# Altium footprint library Connector_PinHeader_1.27mm.PcbLib: 278 footprints (part 12 of 18)
Each footprint in its own frame and in the unit in brackets; x right, y up, seen from the top. Pads: shape width x height; smd on the part's side, far side on the other; paste and mask are expansions set on the pad; w line width, h text height; cw(c..) or ccw(c..) is an arc to the next point about the centre after c.
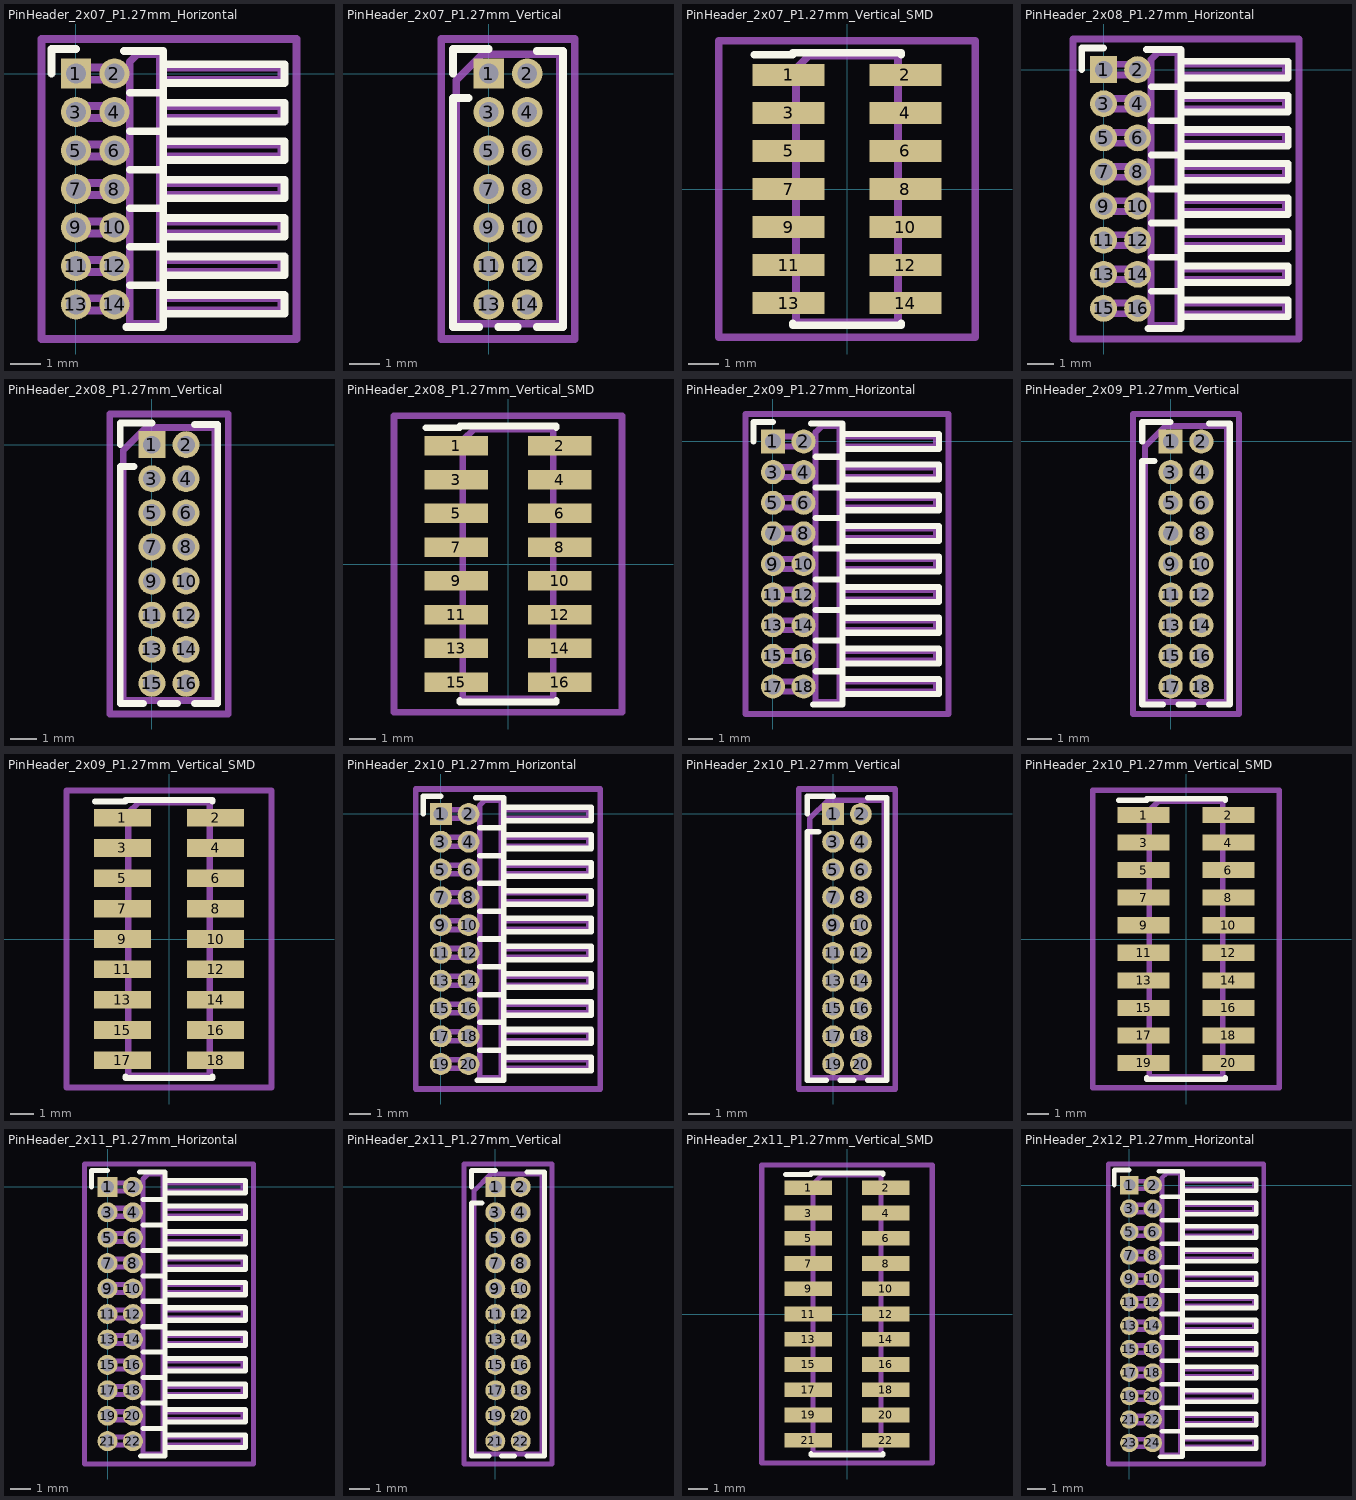
[diagram p11: the footprints below, top view; thin cyan lines are the x and y axes]

## PinHeader_2x07_P1.27mm_Horizontal [mm]
pads (14):
  rect 1x1 hole 0.65: 1(0,0)
  round 1 hole 0.65: 2(1.27,0) 3(0,-1.27) 4(1.27,-1.27) 5(0,-2.54) 6(1.27,-2.54) 7(0,-3.81) 8(1.27,-3.81) 9(0,-5.08) 10(1.27,-5.08) 11(0,-6.35) 12(1.27,-6.35) 13(0,-7.62) 14(1.27,-7.62)
F.SilkS:
  lines w0.254: -0.81,0 -0.81,0.81 0,0.81 ; 1.588,0.745 2.88,0.745 2.88,-8.365 1.66,-8.365 ; 1.773,-6.985 2.88,-6.985 ; 1.773,-5.715 2.88,-5.715 ; 1.773,-4.445 2.88,-4.445 ; 1.773,-3.175 2.88,-3.175 ; 1.773,-1.905 2.88,-1.905 ; 1.773,-0.635 2.88,-0.635 ; 2.88,-7.93 6.88,-7.93 6.88,-7.31 2.88,-7.31 ; 2.88,-6.66 6.88,-6.66 6.88,-6.04 2.88,-6.04 ; 2.88,-5.39 6.88,-5.39 6.88,-4.77 2.88,-4.77 ; 2.88,-4.12 6.88,-4.12 6.88,-3.5 2.88,-3.5 ; 2.88,-2.85 6.88,-2.85 6.88,-2.23 2.88,-2.23 ; 2.88,-1.58 6.88,-1.58 6.88,-0.96 2.88,-0.96 ; 2.88,-0.31 6.88,-0.31 6.88,0.31 2.88,0.31 2.88,-0.31
Top Assembly:
  lines w0.254: 1.77,-7.82 -0.2,-7.82 -0.2,-7.42 1.77,-7.42 ; 1.77,-6.55 -0.2,-6.55 -0.2,-6.15 1.77,-6.15 ; 1.77,-5.28 -0.2,-5.28 -0.2,-4.88 1.77,-4.88 ; 1.77,-4.01 -0.2,-4.01 -0.2,-3.61 1.77,-3.61 ; 1.77,-2.74 -0.2,-2.74 -0.2,-2.34 1.77,-2.34 ; 1.77,-1.47 -0.2,-1.47 -0.2,-1.07 1.77,-1.07 ; 1.77,-0.2 -0.2,-0.2 -0.2,0.2 1.77,0.2 ; 2.77,-7.82 6.77,-7.82 6.77,-7.42 2.77,-7.42 ; 2.77,-6.55 6.77,-6.55 6.77,-6.15 2.77,-6.15 ; 2.77,-5.28 6.77,-5.28 6.77,-4.88 2.77,-4.88 ; 2.77,-4.01 6.77,-4.01 6.77,-3.61 2.77,-3.61 ; 2.77,-2.74 6.77,-2.74 6.77,-2.34 2.77,-2.34 ; 2.77,-1.47 6.77,-1.47 6.77,-1.07 2.77,-1.07 ; 2.77,-0.2 6.77,-0.2 6.77,0.2 2.77,0.2 ; 1.77,-8.255 2.77,-8.255 2.77,0.635 2.02,0.635 1.77,0.385 1.77,-8.255
  text "'.Designator'" at 2.774,-6.238 h0.6
Top Courtyard:
  lines w0.254: -1.14,-8.76 7.28,-8.76 7.28,1.14 -1.14,1.14 -1.14,-8.76
Top Designator:
  text ".Designator" at -4.548,-4.318 h1.52

## PinHeader_2x07_P1.27mm_Vertical [mm]
pads (14):
  rect 1x1 hole 0.65: 1(0,0)
  round 1 hole 0.65: 2(1.27,0) 3(0,-1.27) 4(1.27,-1.27) 5(0,-2.54) 6(1.27,-2.54) 7(0,-3.81) 8(1.27,-3.81) 9(0,-5.08) 10(1.27,-5.08) 11(0,-6.35) 12(1.27,-6.35) 13(0,-7.62) 14(1.27,-7.62)
F.SilkS:
  lines w0.254: -1.18,0 -1.18,0.81 0,0.81 ; -0.667,-0.81 -1.18,-0.81 -1.18,-8.365 -0.318,-8.365 ; 0.318,-8.365 0.952,-8.365 ; 1.588,-8.365 2.45,-8.365 2.45,0.745 1.588,0.745
Top Assembly:
  lines w0.254: -1.07,-8.255 2.34,-8.255 2.34,0.635 -0.218,0.635 -1.07,-0.218 -1.07,-8.255
  text "'.Designator'" at 1.475,-7.857 h1
Top Courtyard:
  lines w0.254: -1.57,-8.76 2.84,-8.76 2.84,1.14 -1.57,1.14 -1.57,-8.76
Top Designator:
  text ".Designator" at -6.983,-4.318 h1.52

## PinHeader_2x07_P1.27mm_Vertical_SMD [mm]
pads (14):
  rect 2.4x0.74 smd: 1(-1.95,3.81) 2(1.95,3.81) 3(-1.95,2.54) 4(1.95,2.54) 5(-1.95,1.27) 6(1.95,1.27) 7(-1.95,0) 8(1.95,0) 9(-1.95,-1.27) 10(1.95,-1.27) 11(-1.95,-2.54) 12(1.95,-2.54) 13(-1.95,-3.81) 14(1.95,-3.81)
F.SilkS:
  lines w0.254: -3.09,4.49 -1.815,4.49 -1.815,4.555 1.815,4.555 1.815,4.49 ; -1.815,-4.49 -1.815,-4.555 1.815,-4.555 1.815,-4.49
Top Assembly:
  lines w0.254: -1.705,-4.01 -2.75,-4.01 -2.75,-3.61 -1.705,-3.61 ; -1.705,-2.74 -2.75,-2.74 -2.75,-2.34 -1.705,-2.34 ; -1.705,-1.47 -2.75,-1.47 -2.75,-1.07 -1.705,-1.07 ; -1.705,-0.2 -2.75,-0.2 -2.75,0.2 -1.705,0.2 ; -1.705,1.07 -2.75,1.07 -2.75,1.47 -1.705,1.47 ; -1.705,2.34 -2.75,2.34 -2.75,2.74 -1.705,2.74 ; -1.705,3.61 -2.75,3.61 -2.75,4.01 -1.705,4.01 ; 1.705,-4.01 2.75,-4.01 2.75,-3.61 1.705,-3.61 ; 1.705,-2.74 2.75,-2.74 2.75,-2.34 1.705,-2.34 ; 1.705,-1.47 2.75,-1.47 2.75,-1.07 1.705,-1.07 ; 1.705,-0.2 2.75,-0.2 2.75,0.2 1.705,0.2 ; 1.705,1.07 2.75,1.07 2.75,1.47 1.705,1.47 ; 1.705,2.34 2.75,2.34 2.75,2.74 1.705,2.74 ; 1.705,3.61 2.75,3.61 2.75,4.01 1.705,4.01 ; -1.705,4.01 -1.705,-4.445 1.705,-4.445 1.705,4.445 -1.27,4.445 -1.705,4.01
  text "'.Designator'" at 0.84,-4.047 h1
Top Courtyard:
  lines w0.254: -4.29,-4.95 4.29,-4.95 4.29,4.95 -4.29,4.95 -4.29,-4.95
Top Designator:
  text ".Designator" at -7.618,-0.508 h1.52

## PinHeader_2x08_P1.27mm_Horizontal [mm]
pads (16):
  rect 1x1 hole 0.65: 1(0,0)
  round 1 hole 0.65: 2(1.27,0) 3(0,-1.27) 4(1.27,-1.27) 5(0,-2.54) 6(1.27,-2.54) 7(0,-3.81) 8(1.27,-3.81) 9(0,-5.08) 10(1.27,-5.08) 11(0,-6.35) 12(1.27,-6.35) 13(0,-7.62) 14(1.27,-7.62) 15(0,-8.89) 16(1.27,-8.89)
F.SilkS:
  lines w0.254: -0.81,0 -0.81,0.81 0,0.81 ; 1.588,0.745 2.88,0.745 2.88,-9.635 1.66,-9.635 ; 1.773,-8.255 2.88,-8.255 ; 1.773,-6.985 2.88,-6.985 ; 1.773,-5.715 2.88,-5.715 ; 1.773,-4.445 2.88,-4.445 ; 1.773,-3.175 2.88,-3.175 ; 1.773,-1.905 2.88,-1.905 ; 1.773,-0.635 2.88,-0.635 ; 2.88,-9.2 6.88,-9.2 6.88,-8.58 2.88,-8.58 ; 2.88,-7.93 6.88,-7.93 6.88,-7.31 2.88,-7.31 ; 2.88,-6.66 6.88,-6.66 6.88,-6.04 2.88,-6.04 ; 2.88,-5.39 6.88,-5.39 6.88,-4.77 2.88,-4.77 ; 2.88,-4.12 6.88,-4.12 6.88,-3.5 2.88,-3.5 ; 2.88,-2.85 6.88,-2.85 6.88,-2.23 2.88,-2.23 ; 2.88,-1.58 6.88,-1.58 6.88,-0.96 2.88,-0.96 ; 2.88,-0.31 6.88,-0.31 6.88,0.31 2.88,0.31 2.88,-0.31
Top Assembly:
  lines w0.254: 1.77,-9.09 -0.2,-9.09 -0.2,-8.69 1.77,-8.69 ; 1.77,-7.82 -0.2,-7.82 -0.2,-7.42 1.77,-7.42 ; 1.77,-6.55 -0.2,-6.55 -0.2,-6.15 1.77,-6.15 ; 1.77,-5.28 -0.2,-5.28 -0.2,-4.88 1.77,-4.88 ; 1.77,-4.01 -0.2,-4.01 -0.2,-3.61 1.77,-3.61 ; 1.77,-2.74 -0.2,-2.74 -0.2,-2.34 1.77,-2.34 ; 1.77,-1.47 -0.2,-1.47 -0.2,-1.07 1.77,-1.07 ; 1.77,-0.2 -0.2,-0.2 -0.2,0.2 1.77,0.2 ; 2.77,-9.09 6.77,-9.09 6.77,-8.69 2.77,-8.69 ; 2.77,-7.82 6.77,-7.82 6.77,-7.42 2.77,-7.42 ; 2.77,-6.55 6.77,-6.55 6.77,-6.15 2.77,-6.15 ; 2.77,-5.28 6.77,-5.28 6.77,-4.88 2.77,-4.88 ; 2.77,-4.01 6.77,-4.01 6.77,-3.61 2.77,-3.61 ; 2.77,-2.74 6.77,-2.74 6.77,-2.34 2.77,-2.34 ; 2.77,-1.47 6.77,-1.47 6.77,-1.07 2.77,-1.07 ; 2.77,-0.2 6.77,-0.2 6.77,0.2 2.77,0.2 ; 1.77,-9.525 2.77,-9.525 2.77,0.635 2.02,0.635 1.77,0.385 1.77,-9.525
  text "'.Designator'" at 2.774,-6.873 h0.6
Top Courtyard:
  lines w0.254: -1.14,-10.03 7.28,-10.03 7.28,1.14 -1.14,1.14 -1.14,-10.03
Top Designator:
  text ".Designator" at -4.548,-4.953 h1.52

## PinHeader_2x08_P1.27mm_Vertical [mm]
pads (16):
  rect 1x1 hole 0.65: 1(0,0)
  round 1 hole 0.65: 2(1.27,0) 3(0,-1.27) 4(1.27,-1.27) 5(0,-2.54) 6(1.27,-2.54) 7(0,-3.81) 8(1.27,-3.81) 9(0,-5.08) 10(1.27,-5.08) 11(0,-6.35) 12(1.27,-6.35) 13(0,-7.62) 14(1.27,-7.62) 15(0,-8.89) 16(1.27,-8.89)
F.SilkS:
  lines w0.254: -1.18,0 -1.18,0.81 0,0.81 ; -0.667,-0.81 -1.18,-0.81 -1.18,-9.635 -0.318,-9.635 ; 0.318,-9.635 0.952,-9.635 ; 1.588,-9.635 2.45,-9.635 2.45,0.745 1.588,0.745
Top Assembly:
  lines w0.254: -1.07,-9.525 2.34,-9.525 2.34,0.635 -0.218,0.635 -1.07,-0.218 -1.07,-9.525
  text "'.Designator'" at 1.475,-8.492 h1
Top Courtyard:
  lines w0.254: -1.57,-10.03 2.84,-10.03 2.84,1.14 -1.57,1.14 -1.57,-10.03
Top Designator:
  text ".Designator" at -6.983,-4.953 h1.52

## PinHeader_2x08_P1.27mm_Vertical_SMD [mm]
pads (16):
  rect 2.4x0.74 smd: 1(-1.95,4.445) 2(1.95,4.445) 3(-1.95,3.175) 4(1.95,3.175) 5(-1.95,1.905) 6(1.95,1.905) 7(-1.95,0.635) 8(1.95,0.635) 9(-1.95,-0.635) 10(1.95,-0.635) 11(-1.95,-1.905) 12(1.95,-1.905) 13(-1.95,-3.175) 14(1.95,-3.175) 15(-1.95,-4.445) 16(1.95,-4.445)
F.SilkS:
  lines w0.254: -3.09,5.125 -1.815,5.125 -1.815,5.19 1.815,5.19 1.815,5.125 ; -1.815,-5.125 -1.815,-5.19 1.815,-5.19 1.815,-5.125
Top Assembly:
  lines w0.254: -1.705,-4.645 -2.75,-4.645 -2.75,-4.245 -1.705,-4.245 ; -1.705,-3.375 -2.75,-3.375 -2.75,-2.975 -1.705,-2.975 ; -1.705,-2.105 -2.75,-2.105 -2.75,-1.705 -1.705,-1.705 ; -1.705,-0.835 -2.75,-0.835 -2.75,-0.435 -1.705,-0.435 ; -1.705,0.435 -2.75,0.435 -2.75,0.835 -1.705,0.835 ; -1.705,1.705 -2.75,1.705 -2.75,2.105 -1.705,2.105 ; -1.705,2.975 -2.75,2.975 -2.75,3.375 -1.705,3.375 ; -1.705,4.245 -2.75,4.245 -2.75,4.645 -1.705,4.645 ; 1.705,-4.645 2.75,-4.645 2.75,-4.245 1.705,-4.245 ; 1.705,-3.375 2.75,-3.375 2.75,-2.975 1.705,-2.975 ; 1.705,-2.105 2.75,-2.105 2.75,-1.705 1.705,-1.705 ; 1.705,-0.835 2.75,-0.835 2.75,-0.435 1.705,-0.435 ; 1.705,0.435 2.75,0.435 2.75,0.835 1.705,0.835 ; 1.705,1.705 2.75,1.705 2.75,2.105 1.705,2.105 ; 1.705,2.975 2.75,2.975 2.75,3.375 1.705,3.375 ; 1.705,4.245 2.75,4.245 2.75,4.645 1.705,4.645 ; -1.705,4.645 -1.705,-5.08 1.705,-5.08 1.705,5.08 -1.27,5.08 -1.705,4.645
  text "'.Designator'" at 0.84,-4.047 h1
Top Courtyard:
  lines w0.254: -4.29,-5.58 4.29,-5.58 4.29,5.58 -4.29,5.58 -4.29,-5.58
Top Designator:
  text ".Designator" at -7.618,-0.508 h1.52

## PinHeader_2x09_P1.27mm_Horizontal [mm]
pads (18):
  rect 1x1 hole 0.65: 1(0,0)
  round 1 hole 0.65: 2(1.27,0) 3(0,-1.27) 4(1.27,-1.27) 5(0,-2.54) 6(1.27,-2.54) 7(0,-3.81) 8(1.27,-3.81) 9(0,-5.08) 10(1.27,-5.08) 11(0,-6.35) 12(1.27,-6.35) 13(0,-7.62) 14(1.27,-7.62) 15(0,-8.89) 16(1.27,-8.89) 17(0,-10.16) 18(1.27,-10.16)
F.SilkS:
  lines w0.254: -0.81,0 -0.81,0.81 0,0.81 ; 1.588,0.745 2.88,0.745 2.88,-10.905 1.66,-10.905 ; 1.773,-9.525 2.88,-9.525 ; 1.773,-8.255 2.88,-8.255 ; 1.773,-6.985 2.88,-6.985 ; 1.773,-5.715 2.88,-5.715 ; 1.773,-4.445 2.88,-4.445 ; 1.773,-3.175 2.88,-3.175 ; 1.773,-1.905 2.88,-1.905 ; 1.773,-0.635 2.88,-0.635 ; 2.88,-10.47 6.88,-10.47 6.88,-9.85 2.88,-9.85 ; 2.88,-9.2 6.88,-9.2 6.88,-8.58 2.88,-8.58 ; 2.88,-7.93 6.88,-7.93 6.88,-7.31 2.88,-7.31 ; 2.88,-6.66 6.88,-6.66 6.88,-6.04 2.88,-6.04 ; 2.88,-5.39 6.88,-5.39 6.88,-4.77 2.88,-4.77 ; 2.88,-4.12 6.88,-4.12 6.88,-3.5 2.88,-3.5 ; 2.88,-2.85 6.88,-2.85 6.88,-2.23 2.88,-2.23 ; 2.88,-1.58 6.88,-1.58 6.88,-0.96 2.88,-0.96 ; 2.88,-0.31 6.88,-0.31 6.88,0.31 2.88,0.31 2.88,-0.31
Top Assembly:
  lines w0.254: 1.77,-10.36 -0.2,-10.36 -0.2,-9.96 1.77,-9.96 ; 1.77,-9.09 -0.2,-9.09 -0.2,-8.69 1.77,-8.69 ; 1.77,-7.82 -0.2,-7.82 -0.2,-7.42 1.77,-7.42 ; 1.77,-6.55 -0.2,-6.55 -0.2,-6.15 1.77,-6.15 ; 1.77,-5.28 -0.2,-5.28 -0.2,-4.88 1.77,-4.88 ; 1.77,-4.01 -0.2,-4.01 -0.2,-3.61 1.77,-3.61 ; 1.77,-2.74 -0.2,-2.74 -0.2,-2.34 1.77,-2.34 ; 1.77,-1.47 -0.2,-1.47 -0.2,-1.07 1.77,-1.07 ; 1.77,-0.2 -0.2,-0.2 -0.2,0.2 1.77,0.2 ; 2.77,-10.36 6.77,-10.36 6.77,-9.96 2.77,-9.96 ; 2.77,-9.09 6.77,-9.09 6.77,-8.69 2.77,-8.69 ; 2.77,-7.82 6.77,-7.82 6.77,-7.42 2.77,-7.42 ; 2.77,-6.55 6.77,-6.55 6.77,-6.15 2.77,-6.15 ; 2.77,-5.28 6.77,-5.28 6.77,-4.88 2.77,-4.88 ; 2.77,-4.01 6.77,-4.01 6.77,-3.61 2.77,-3.61 ; 2.77,-2.74 6.77,-2.74 6.77,-2.34 2.77,-2.34 ; 2.77,-1.47 6.77,-1.47 6.77,-1.07 2.77,-1.07 ; 2.77,-0.2 6.77,-0.2 6.77,0.2 2.77,0.2 ; 1.77,-10.795 2.77,-10.795 2.77,0.635 2.02,0.635 1.77,0.385 1.77,-10.795
  text "'.Designator'" at 2.774,-7.508 h0.6
Top Courtyard:
  lines w0.254: -1.14,-11.3 7.28,-11.3 7.28,1.14 -1.14,1.14 -1.14,-11.3
Top Designator:
  text ".Designator" at -4.548,-5.588 h1.52

## PinHeader_2x09_P1.27mm_Vertical [mm]
pads (18):
  rect 1x1 hole 0.65: 1(0,0)
  round 1 hole 0.65: 2(1.27,0) 3(0,-1.27) 4(1.27,-1.27) 5(0,-2.54) 6(1.27,-2.54) 7(0,-3.81) 8(1.27,-3.81) 9(0,-5.08) 10(1.27,-5.08) 11(0,-6.35) 12(1.27,-6.35) 13(0,-7.62) 14(1.27,-7.62) 15(0,-8.89) 16(1.27,-8.89) 17(0,-10.16) 18(1.27,-10.16)
F.SilkS:
  lines w0.254: -1.18,0 -1.18,0.81 0,0.81 ; -0.667,-0.81 -1.18,-0.81 -1.18,-10.905 -0.318,-10.905 ; 0.318,-10.905 0.952,-10.905 ; 1.588,-10.905 2.45,-10.905 2.45,0.745 1.588,0.745
Top Assembly:
  lines w0.254: -1.07,-10.795 2.34,-10.795 2.34,0.635 -0.218,0.635 -1.07,-0.218 -1.07,-10.795
  text "'.Designator'" at 1.475,-9.127 h1
Top Courtyard:
  lines w0.254: -1.57,-11.3 2.84,-11.3 2.84,1.14 -1.57,1.14 -1.57,-11.3
Top Designator:
  text ".Designator" at -6.983,-5.588 h1.52

## PinHeader_2x09_P1.27mm_Vertical_SMD [mm]
pads (18):
  rect 2.4x0.74 smd: 1(-1.95,5.08) 2(1.95,5.08) 3(-1.95,3.81) 4(1.95,3.81) 5(-1.95,2.54) 6(1.95,2.54) 7(-1.95,1.27) 8(1.95,1.27) 9(-1.95,0) 10(1.95,0) 11(-1.95,-1.27) 12(1.95,-1.27) 13(-1.95,-2.54) 14(1.95,-2.54) 15(-1.95,-3.81) 16(1.95,-3.81) 17(-1.95,-5.08) 18(1.95,-5.08)
F.SilkS:
  lines w0.254: -3.09,5.76 -1.815,5.76 -1.815,5.825 1.815,5.825 1.815,5.76 ; -1.815,-5.76 -1.815,-5.825 1.815,-5.825 1.815,-5.76
Top Assembly:
  lines w0.254: -1.705,-5.28 -2.75,-5.28 -2.75,-4.88 -1.705,-4.88 ; -1.705,-4.01 -2.75,-4.01 -2.75,-3.61 -1.705,-3.61 ; -1.705,-2.74 -2.75,-2.74 -2.75,-2.34 -1.705,-2.34 ; -1.705,-1.47 -2.75,-1.47 -2.75,-1.07 -1.705,-1.07 ; -1.705,-0.2 -2.75,-0.2 -2.75,0.2 -1.705,0.2 ; -1.705,1.07 -2.75,1.07 -2.75,1.47 -1.705,1.47 ; -1.705,2.34 -2.75,2.34 -2.75,2.74 -1.705,2.74 ; -1.705,3.61 -2.75,3.61 -2.75,4.01 -1.705,4.01 ; -1.705,4.88 -2.75,4.88 -2.75,5.28 -1.705,5.28 ; 1.705,-5.28 2.75,-5.28 2.75,-4.88 1.705,-4.88 ; 1.705,-4.01 2.75,-4.01 2.75,-3.61 1.705,-3.61 ; 1.705,-2.74 2.75,-2.74 2.75,-2.34 1.705,-2.34 ; 1.705,-1.47 2.75,-1.47 2.75,-1.07 1.705,-1.07 ; 1.705,-0.2 2.75,-0.2 2.75,0.2 1.705,0.2 ; 1.705,1.07 2.75,1.07 2.75,1.47 1.705,1.47 ; 1.705,2.34 2.75,2.34 2.75,2.74 1.705,2.74 ; 1.705,3.61 2.75,3.61 2.75,4.01 1.705,4.01 ; 1.705,4.88 2.75,4.88 2.75,5.28 1.705,5.28 ; -1.705,5.28 -1.705,-5.715 1.705,-5.715 1.705,5.715 -1.27,5.715 -1.705,5.28
  text "'.Designator'" at 0.84,-4.047 h1
Top Courtyard:
  lines w0.254: -4.29,-6.22 4.29,-6.22 4.29,6.22 -4.29,6.22 -4.29,-6.22
Top Designator:
  text ".Designator" at -7.618,-0.508 h1.52

## PinHeader_2x10_P1.27mm_Horizontal [mm]
pads (20):
  rect 1x1 hole 0.65: 1(0,0)
  round 1 hole 0.65: 2(1.27,0) 3(0,-1.27) 4(1.27,-1.27) 5(0,-2.54) 6(1.27,-2.54) 7(0,-3.81) 8(1.27,-3.81) 9(0,-5.08) 10(1.27,-5.08) 11(0,-6.35) 12(1.27,-6.35) 13(0,-7.62) 14(1.27,-7.62) 15(0,-8.89) 16(1.27,-8.89) 17(0,-10.16) 18(1.27,-10.16) 19(0,-11.43) 20(1.27,-11.43)
F.SilkS:
  lines w0.254: -0.81,0 -0.81,0.81 0,0.81 ; 1.588,0.745 2.88,0.745 2.88,-12.175 1.66,-12.175 ; 1.773,-10.795 2.88,-10.795 ; 1.773,-9.525 2.88,-9.525 ; 1.773,-8.255 2.88,-8.255 ; 1.773,-6.985 2.88,-6.985 ; 1.773,-5.715 2.88,-5.715 ; 1.773,-4.445 2.88,-4.445 ; 1.773,-3.175 2.88,-3.175 ; 1.773,-1.905 2.88,-1.905 ; 1.773,-0.635 2.88,-0.635 ; 2.88,-11.74 6.88,-11.74 6.88,-11.12 2.88,-11.12 ; 2.88,-10.47 6.88,-10.47 6.88,-9.85 2.88,-9.85 ; 2.88,-9.2 6.88,-9.2 6.88,-8.58 2.88,-8.58 ; 2.88,-7.93 6.88,-7.93 6.88,-7.31 2.88,-7.31 ; 2.88,-6.66 6.88,-6.66 6.88,-6.04 2.88,-6.04 ; 2.88,-5.39 6.88,-5.39 6.88,-4.77 2.88,-4.77 ; 2.88,-4.12 6.88,-4.12 6.88,-3.5 2.88,-3.5 ; 2.88,-2.85 6.88,-2.85 6.88,-2.23 2.88,-2.23 ; 2.88,-1.58 6.88,-1.58 6.88,-0.96 2.88,-0.96 ; 2.88,-0.31 6.88,-0.31 6.88,0.31 2.88,0.31 2.88,-0.31
Top Assembly:
  lines w0.254: 1.77,-11.63 -0.2,-11.63 -0.2,-11.23 1.77,-11.23 ; 1.77,-10.36 -0.2,-10.36 -0.2,-9.96 1.77,-9.96 ; 1.77,-9.09 -0.2,-9.09 -0.2,-8.69 1.77,-8.69 ; 1.77,-7.82 -0.2,-7.82 -0.2,-7.42 1.77,-7.42 ; 1.77,-6.55 -0.2,-6.55 -0.2,-6.15 1.77,-6.15 ; 1.77,-5.28 -0.2,-5.28 -0.2,-4.88 1.77,-4.88 ; 1.77,-4.01 -0.2,-4.01 -0.2,-3.61 1.77,-3.61 ; 1.77,-2.74 -0.2,-2.74 -0.2,-2.34 1.77,-2.34 ; 1.77,-1.47 -0.2,-1.47 -0.2,-1.07 1.77,-1.07 ; 1.77,-0.2 -0.2,-0.2 -0.2,0.2 1.77,0.2 ; 2.77,-11.63 6.77,-11.63 6.77,-11.23 2.77,-11.23 ; 2.77,-10.36 6.77,-10.36 6.77,-9.96 2.77,-9.96 ; 2.77,-9.09 6.77,-9.09 6.77,-8.69 2.77,-8.69 ; 2.77,-7.82 6.77,-7.82 6.77,-7.42 2.77,-7.42 ; 2.77,-6.55 6.77,-6.55 6.77,-6.15 2.77,-6.15 ; 2.77,-5.28 6.77,-5.28 6.77,-4.88 2.77,-4.88 ; 2.77,-4.01 6.77,-4.01 6.77,-3.61 2.77,-3.61 ; 2.77,-2.74 6.77,-2.74 6.77,-2.34 2.77,-2.34 ; 2.77,-1.47 6.77,-1.47 6.77,-1.07 2.77,-1.07 ; 2.77,-0.2 6.77,-0.2 6.77,0.2 2.77,0.2 ; 1.77,-12.065 2.77,-12.065 2.77,0.635 2.02,0.635 1.77,0.385 1.77,-12.065
  text "'.Designator'" at 2.774,-8.143 h0.6
Top Courtyard:
  lines w0.254: -1.14,-12.57 7.28,-12.57 7.28,1.14 -1.14,1.14 -1.14,-12.57
Top Designator:
  text ".Designator" at -4.548,-6.223 h1.52

## PinHeader_2x10_P1.27mm_Vertical [mm]
pads (20):
  rect 1x1 hole 0.65: 1(0,0)
  round 1 hole 0.65: 2(1.27,0) 3(0,-1.27) 4(1.27,-1.27) 5(0,-2.54) 6(1.27,-2.54) 7(0,-3.81) 8(1.27,-3.81) 9(0,-5.08) 10(1.27,-5.08) 11(0,-6.35) 12(1.27,-6.35) 13(0,-7.62) 14(1.27,-7.62) 15(0,-8.89) 16(1.27,-8.89) 17(0,-10.16) 18(1.27,-10.16) 19(0,-11.43) 20(1.27,-11.43)
F.SilkS:
  lines w0.254: -1.18,0 -1.18,0.81 0,0.81 ; -0.667,-0.81 -1.18,-0.81 -1.18,-12.175 -0.318,-12.175 ; 0.318,-12.175 0.952,-12.175 ; 1.588,-12.175 2.45,-12.175 2.45,0.745 1.588,0.745
Top Assembly:
  lines w0.254: -1.07,-12.065 2.34,-12.065 2.34,0.635 -0.218,0.635 -1.07,-0.218 -1.07,-12.065
  text "'.Designator'" at 1.475,-9.762 h1
Top Courtyard:
  lines w0.254: -1.57,-12.57 2.84,-12.57 2.84,1.14 -1.57,1.14 -1.57,-12.57
Top Designator:
  text ".Designator" at -6.983,-6.223 h1.52

## PinHeader_2x10_P1.27mm_Vertical_SMD [mm]
pads (20):
  rect 2.4x0.74 smd: 1(-1.95,5.715) 2(1.95,5.715) 3(-1.95,4.445) 4(1.95,4.445) 5(-1.95,3.175) 6(1.95,3.175) 7(-1.95,1.905) 8(1.95,1.905) 9(-1.95,0.635) 10(1.95,0.635) 11(-1.95,-0.635) 12(1.95,-0.635) 13(-1.95,-1.905) 14(1.95,-1.905) 15(-1.95,-3.175) 16(1.95,-3.175) 17(-1.95,-4.445) 18(1.95,-4.445) 19(-1.95,-5.715) 20(1.95,-5.715)
F.SilkS:
  lines w0.254: -3.09,6.395 -1.815,6.395 -1.815,6.46 1.815,6.46 1.815,6.395 ; -1.815,-6.395 -1.815,-6.46 1.815,-6.46 1.815,-6.395
Top Assembly:
  lines w0.254: -1.705,-5.915 -2.75,-5.915 -2.75,-5.515 -1.705,-5.515 ; -1.705,-4.645 -2.75,-4.645 -2.75,-4.245 -1.705,-4.245 ; -1.705,-3.375 -2.75,-3.375 -2.75,-2.975 -1.705,-2.975 ; -1.705,-2.105 -2.75,-2.105 -2.75,-1.705 -1.705,-1.705 ; -1.705,-0.835 -2.75,-0.835 -2.75,-0.435 -1.705,-0.435 ; -1.705,0.435 -2.75,0.435 -2.75,0.835 -1.705,0.835 ; -1.705,1.705 -2.75,1.705 -2.75,2.105 -1.705,2.105 ; -1.705,2.975 -2.75,2.975 -2.75,3.375 -1.705,3.375 ; -1.705,4.245 -2.75,4.245 -2.75,4.645 -1.705,4.645 ; -1.705,5.515 -2.75,5.515 -2.75,5.915 -1.705,5.915 ; 1.705,-5.915 2.75,-5.915 2.75,-5.515 1.705,-5.515 ; 1.705,-4.645 2.75,-4.645 2.75,-4.245 1.705,-4.245 ; 1.705,-3.375 2.75,-3.375 2.75,-2.975 1.705,-2.975 ; 1.705,-2.105 2.75,-2.105 2.75,-1.705 1.705,-1.705 ; 1.705,-0.835 2.75,-0.835 2.75,-0.435 1.705,-0.435 ; 1.705,0.435 2.75,0.435 2.75,0.835 1.705,0.835 ; 1.705,1.705 2.75,1.705 2.75,2.105 1.705,2.105 ; 1.705,2.975 2.75,2.975 2.75,3.375 1.705,3.375 ; 1.705,4.245 2.75,4.245 2.75,4.645 1.705,4.645 ; 1.705,5.515 2.75,5.515 2.75,5.915 1.705,5.915 ; -1.705,5.915 -1.705,-6.35 1.705,-6.35 1.705,6.35 -1.27,6.35 -1.705,5.915
  text "'.Designator'" at 0.84,-4.047 h1
Top Courtyard:
  lines w0.254: -4.29,-6.85 4.29,-6.85 4.29,6.85 -4.29,6.85 -4.29,-6.85
Top Designator:
  text ".Designator" at -7.618,-0.508 h1.52

## PinHeader_2x11_P1.27mm_Horizontal [mm]
pads (22):
  rect 1x1 hole 0.65: 1(0,0)
  round 1 hole 0.65: 2(1.27,0) 3(0,-1.27) 4(1.27,-1.27) 5(0,-2.54) 6(1.27,-2.54) 7(0,-3.81) 8(1.27,-3.81) 9(0,-5.08) 10(1.27,-5.08) 11(0,-6.35) 12(1.27,-6.35) 13(0,-7.62) 14(1.27,-7.62) 15(0,-8.89) 16(1.27,-8.89) 17(0,-10.16) 18(1.27,-10.16) 19(0,-11.43) 20(1.27,-11.43) 21(0,-12.7) 22(1.27,-12.7)
F.SilkS:
  lines w0.254: -0.81,0 -0.81,0.81 0,0.81 ; 1.588,0.745 2.88,0.745 2.88,-13.445 1.66,-13.445 ; 1.773,-12.065 2.88,-12.065 ; 1.773,-10.795 2.88,-10.795 ; 1.773,-9.525 2.88,-9.525 ; 1.773,-8.255 2.88,-8.255 ; 1.773,-6.985 2.88,-6.985 ; 1.773,-5.715 2.88,-5.715 ; 1.773,-4.445 2.88,-4.445 ; 1.773,-3.175 2.88,-3.175 ; 1.773,-1.905 2.88,-1.905 ; 1.773,-0.635 2.88,-0.635 ; 2.88,-13.01 6.88,-13.01 6.88,-12.39 2.88,-12.39 ; 2.88,-11.74 6.88,-11.74 6.88,-11.12 2.88,-11.12 ; 2.88,-10.47 6.88,-10.47 6.88,-9.85 2.88,-9.85 ; 2.88,-9.2 6.88,-9.2 6.88,-8.58 2.88,-8.58 ; 2.88,-7.93 6.88,-7.93 6.88,-7.31 2.88,-7.31 ; 2.88,-6.66 6.88,-6.66 6.88,-6.04 2.88,-6.04 ; 2.88,-5.39 6.88,-5.39 6.88,-4.77 2.88,-4.77 ; 2.88,-4.12 6.88,-4.12 6.88,-3.5 2.88,-3.5 ; 2.88,-2.85 6.88,-2.85 6.88,-2.23 2.88,-2.23 ; 2.88,-1.58 6.88,-1.58 6.88,-0.96 2.88,-0.96 ; 2.88,-0.31 6.88,-0.31 6.88,0.31 2.88,0.31 2.88,-0.31
Top Assembly:
  lines w0.254: 1.77,-12.9 -0.2,-12.9 -0.2,-12.5 1.77,-12.5 ; 1.77,-11.63 -0.2,-11.63 -0.2,-11.23 1.77,-11.23 ; 1.77,-10.36 -0.2,-10.36 -0.2,-9.96 1.77,-9.96 ; 1.77,-9.09 -0.2,-9.09 -0.2,-8.69 1.77,-8.69 ; 1.77,-7.82 -0.2,-7.82 -0.2,-7.42 1.77,-7.42 ; 1.77,-6.55 -0.2,-6.55 -0.2,-6.15 1.77,-6.15 ; 1.77,-5.28 -0.2,-5.28 -0.2,-4.88 1.77,-4.88 ; 1.77,-4.01 -0.2,-4.01 -0.2,-3.61 1.77,-3.61 ; 1.77,-2.74 -0.2,-2.74 -0.2,-2.34 1.77,-2.34 ; 1.77,-1.47 -0.2,-1.47 -0.2,-1.07 1.77,-1.07 ; 1.77,-0.2 -0.2,-0.2 -0.2,0.2 1.77,0.2 ; 2.77,-12.9 6.77,-12.9 6.77,-12.5 2.77,-12.5 ; 2.77,-11.63 6.77,-11.63 6.77,-11.23 2.77,-11.23 ; 2.77,-10.36 6.77,-10.36 6.77,-9.96 2.77,-9.96 ; 2.77,-9.09 6.77,-9.09 6.77,-8.69 2.77,-8.69 ; 2.77,-7.82 6.77,-7.82 6.77,-7.42 2.77,-7.42 ; 2.77,-6.55 6.77,-6.55 6.77,-6.15 2.77,-6.15 ; 2.77,-5.28 6.77,-5.28 6.77,-4.88 2.77,-4.88 ; 2.77,-4.01 6.77,-4.01 6.77,-3.61 2.77,-3.61 ; 2.77,-2.74 6.77,-2.74 6.77,-2.34 2.77,-2.34 ; 2.77,-1.47 6.77,-1.47 6.77,-1.07 2.77,-1.07 ; 2.77,-0.2 6.77,-0.2 6.77,0.2 2.77,0.2 ; 1.77,-13.335 2.77,-13.335 2.77,0.635 2.02,0.635 1.77,0.385 1.77,-13.335
  text "'.Designator'" at 2.774,-8.778 h0.6
Top Courtyard:
  lines w0.254: -1.14,-13.84 7.28,-13.84 7.28,1.14 -1.14,1.14 -1.14,-13.84
Top Designator:
  text ".Designator" at -4.548,-6.858 h1.52

## PinHeader_2x11_P1.27mm_Vertical [mm]
pads (22):
  rect 1x1 hole 0.65: 1(0,0)
  round 1 hole 0.65: 2(1.27,0) 3(0,-1.27) 4(1.27,-1.27) 5(0,-2.54) 6(1.27,-2.54) 7(0,-3.81) 8(1.27,-3.81) 9(0,-5.08) 10(1.27,-5.08) 11(0,-6.35) 12(1.27,-6.35) 13(0,-7.62) 14(1.27,-7.62) 15(0,-8.89) 16(1.27,-8.89) 17(0,-10.16) 18(1.27,-10.16) 19(0,-11.43) 20(1.27,-11.43) 21(0,-12.7) 22(1.27,-12.7)
F.SilkS:
  lines w0.254: -1.18,0 -1.18,0.81 0,0.81 ; -0.667,-0.81 -1.18,-0.81 -1.18,-13.445 -0.318,-13.445 ; 0.318,-13.445 0.952,-13.445 ; 1.588,-13.445 2.45,-13.445 2.45,0.745 1.588,0.745
Top Assembly:
  lines w0.254: -1.07,-13.335 2.34,-13.335 2.34,0.635 -0.218,0.635 -1.07,-0.218 -1.07,-13.335
  text "'.Designator'" at 1.475,-10.397 h1
Top Courtyard:
  lines w0.254: -1.57,-13.84 2.84,-13.84 2.84,1.14 -1.57,1.14 -1.57,-13.84
Top Designator:
  text ".Designator" at -6.983,-6.858 h1.52

## PinHeader_2x11_P1.27mm_Vertical_SMD [mm]
pads (22):
  rect 2.4x0.74 smd: 1(-1.95,6.35) 2(1.95,6.35) 3(-1.95,5.08) 4(1.95,5.08) 5(-1.95,3.81) 6(1.95,3.81) 7(-1.95,2.54) 8(1.95,2.54) 9(-1.95,1.27) 10(1.95,1.27) 11(-1.95,0) 12(1.95,0) 13(-1.95,-1.27) 14(1.95,-1.27) 15(-1.95,-2.54) 16(1.95,-2.54) 17(-1.95,-3.81) 18(1.95,-3.81) 19(-1.95,-5.08) 20(1.95,-5.08) 21(-1.95,-6.35) 22(1.95,-6.35)
F.SilkS:
  lines w0.254: -3.09,7.03 -1.815,7.03 -1.815,7.095 1.815,7.095 1.815,7.03 ; -1.815,-7.03 -1.815,-7.095 1.815,-7.095 1.815,-7.03
Top Assembly:
  lines w0.254: -1.705,-6.55 -2.75,-6.55 -2.75,-6.15 -1.705,-6.15 ; -1.705,-5.28 -2.75,-5.28 -2.75,-4.88 -1.705,-4.88 ; -1.705,-4.01 -2.75,-4.01 -2.75,-3.61 -1.705,-3.61 ; -1.705,-2.74 -2.75,-2.74 -2.75,-2.34 -1.705,-2.34 ; -1.705,-1.47 -2.75,-1.47 -2.75,-1.07 -1.705,-1.07 ; -1.705,-0.2 -2.75,-0.2 -2.75,0.2 -1.705,0.2 ; -1.705,1.07 -2.75,1.07 -2.75,1.47 -1.705,1.47 ; -1.705,2.34 -2.75,2.34 -2.75,2.74 -1.705,2.74 ; -1.705,3.61 -2.75,3.61 -2.75,4.01 -1.705,4.01 ; -1.705,4.88 -2.75,4.88 -2.75,5.28 -1.705,5.28 ; -1.705,6.15 -2.75,6.15 -2.75,6.55 -1.705,6.55 ; 1.705,-6.55 2.75,-6.55 2.75,-6.15 1.705,-6.15 ; 1.705,-5.28 2.75,-5.28 2.75,-4.88 1.705,-4.88 ; 1.705,-4.01 2.75,-4.01 2.75,-3.61 1.705,-3.61 ; 1.705,-2.74 2.75,-2.74 2.75,-2.34 1.705,-2.34 ; 1.705,-1.47 2.75,-1.47 2.75,-1.07 1.705,-1.07 ; 1.705,-0.2 2.75,-0.2 2.75,0.2 1.705,0.2 ; 1.705,1.07 2.75,1.07 2.75,1.47 1.705,1.47 ; 1.705,2.34 2.75,2.34 2.75,2.74 1.705,2.74 ; 1.705,3.61 2.75,3.61 2.75,4.01 1.705,4.01 ; 1.705,4.88 2.75,4.88 2.75,5.28 1.705,5.28 ; 1.705,6.15 2.75,6.15 2.75,6.55 1.705,6.55 ; -1.705,6.55 -1.705,-6.985 1.705,-6.985 1.705,6.985 -1.27,6.985 -1.705,6.55
  text "'.Designator'" at 0.84,-4.047 h1
Top Courtyard:
  lines w0.254: -4.29,-7.49 4.29,-7.49 4.29,7.49 -4.29,7.49 -4.29,-7.49
Top Designator:
  text ".Designator" at -7.618,-0.508 h1.52

## PinHeader_2x12_P1.27mm_Horizontal [mm]
pads (24):
  rect 1x1 hole 0.65: 1(0,0)
  round 1 hole 0.65: 2(1.27,0) 3(0,-1.27) 4(1.27,-1.27) 5(0,-2.54) 6(1.27,-2.54) 7(0,-3.81) 8(1.27,-3.81) 9(0,-5.08) 10(1.27,-5.08) 11(0,-6.35) 12(1.27,-6.35) 13(0,-7.62) 14(1.27,-7.62) 15(0,-8.89) 16(1.27,-8.89) 17(0,-10.16) 18(1.27,-10.16) 19(0,-11.43) 20(1.27,-11.43) 21(0,-12.7) 22(1.27,-12.7) 23(0,-13.97) 24(1.27,-13.97)
F.SilkS:
  lines w0.254: -0.81,0 -0.81,0.81 0,0.81 ; 1.588,0.745 2.88,0.745 2.88,-14.715 1.66,-14.715 ; 1.773,-13.335 2.88,-13.335 ; 1.773,-12.065 2.88,-12.065 ; 1.773,-10.795 2.88,-10.795 ; 1.773,-9.525 2.88,-9.525 ; 1.773,-8.255 2.88,-8.255 ; 1.773,-6.985 2.88,-6.985 ; 1.773,-5.715 2.88,-5.715 ; 1.773,-4.445 2.88,-4.445 ; 1.773,-3.175 2.88,-3.175 ; 1.773,-1.905 2.88,-1.905 ; 1.773,-0.635 2.88,-0.635 ; 2.88,-14.28 6.88,-14.28 6.88,-13.66 2.88,-13.66 ; 2.88,-13.01 6.88,-13.01 6.88,-12.39 2.88,-12.39 ; 2.88,-11.74 6.88,-11.74 6.88,-11.12 2.88,-11.12 ; 2.88,-10.47 6.88,-10.47 6.88,-9.85 2.88,-9.85 ; 2.88,-9.2 6.88,-9.2 6.88,-8.58 2.88,-8.58 ; 2.88,-7.93 6.88,-7.93 6.88,-7.31 2.88,-7.31 ; 2.88,-6.66 6.88,-6.66 6.88,-6.04 2.88,-6.04 ; 2.88,-5.39 6.88,-5.39 6.88,-4.77 2.88,-4.77 ; 2.88,-4.12 6.88,-4.12 6.88,-3.5 2.88,-3.5 ; 2.88,-2.85 6.88,-2.85 6.88,-2.23 2.88,-2.23 ; 2.88,-1.58 6.88,-1.58 6.88,-0.96 2.88,-0.96 ; 2.88,-0.31 6.88,-0.31 6.88,0.31 2.88,0.31 2.88,-0.31
Top Assembly:
  lines w0.254: 1.77,-14.17 -0.2,-14.17 -0.2,-13.77 1.77,-13.77 ; 1.77,-12.9 -0.2,-12.9 -0.2,-12.5 1.77,-12.5 ; 1.77,-11.63 -0.2,-11.63 -0.2,-11.23 1.77,-11.23 ; 1.77,-10.36 -0.2,-10.36 -0.2,-9.96 1.77,-9.96 ; 1.77,-9.09 -0.2,-9.09 -0.2,-8.69 1.77,-8.69 ; 1.77,-7.82 -0.2,-7.82 -0.2,-7.42 1.77,-7.42 ; 1.77,-6.55 -0.2,-6.55 -0.2,-6.15 1.77,-6.15 ; 1.77,-5.28 -0.2,-5.28 -0.2,-4.88 1.77,-4.88 ; 1.77,-4.01 -0.2,-4.01 -0.2,-3.61 1.77,-3.61 ; 1.77,-2.74 -0.2,-2.74 -0.2,-2.34 1.77,-2.34 ; 1.77,-1.47 -0.2,-1.47 -0.2,-1.07 1.77,-1.07 ; 1.77,-0.2 -0.2,-0.2 -0.2,0.2 1.77,0.2 ; 2.77,-14.17 6.77,-14.17 6.77,-13.77 2.77,-13.77 ; 2.77,-12.9 6.77,-12.9 6.77,-12.5 2.77,-12.5 ; 2.77,-11.63 6.77,-11.63 6.77,-11.23 2.77,-11.23 ; 2.77,-10.36 6.77,-10.36 6.77,-9.96 2.77,-9.96 ; 2.77,-9.09 6.77,-9.09 6.77,-8.69 2.77,-8.69 ; 2.77,-7.82 6.77,-7.82 6.77,-7.42 2.77,-7.42 ; 2.77,-6.55 6.77,-6.55 6.77,-6.15 2.77,-6.15 ; 2.77,-5.28 6.77,-5.28 6.77,-4.88 2.77,-4.88 ; 2.77,-4.01 6.77,-4.01 6.77,-3.61 2.77,-3.61 ; 2.77,-2.74 6.77,-2.74 6.77,-2.34 2.77,-2.34 ; 2.77,-1.47 6.77,-1.47 6.77,-1.07 2.77,-1.07 ; 2.77,-0.2 6.77,-0.2 6.77,0.2 2.77,0.2 ; 1.77,-14.605 2.77,-14.605 2.77,0.635 2.02,0.635 1.77,0.385 1.77,-14.605
  text "'.Designator'" at 2.774,-9.413 h0.6
Top Courtyard:
  lines w0.254: -1.14,-15.11 7.28,-15.11 7.28,1.14 -1.14,1.14 -1.14,-15.11
Top Designator:
  text ".Designator" at -4.548,-7.493 h1.52